# Altium integrated library Analog Devices Data Converters Analog-to-Digital Converters.IntLib: 2400 symbols (part 196 of 338)
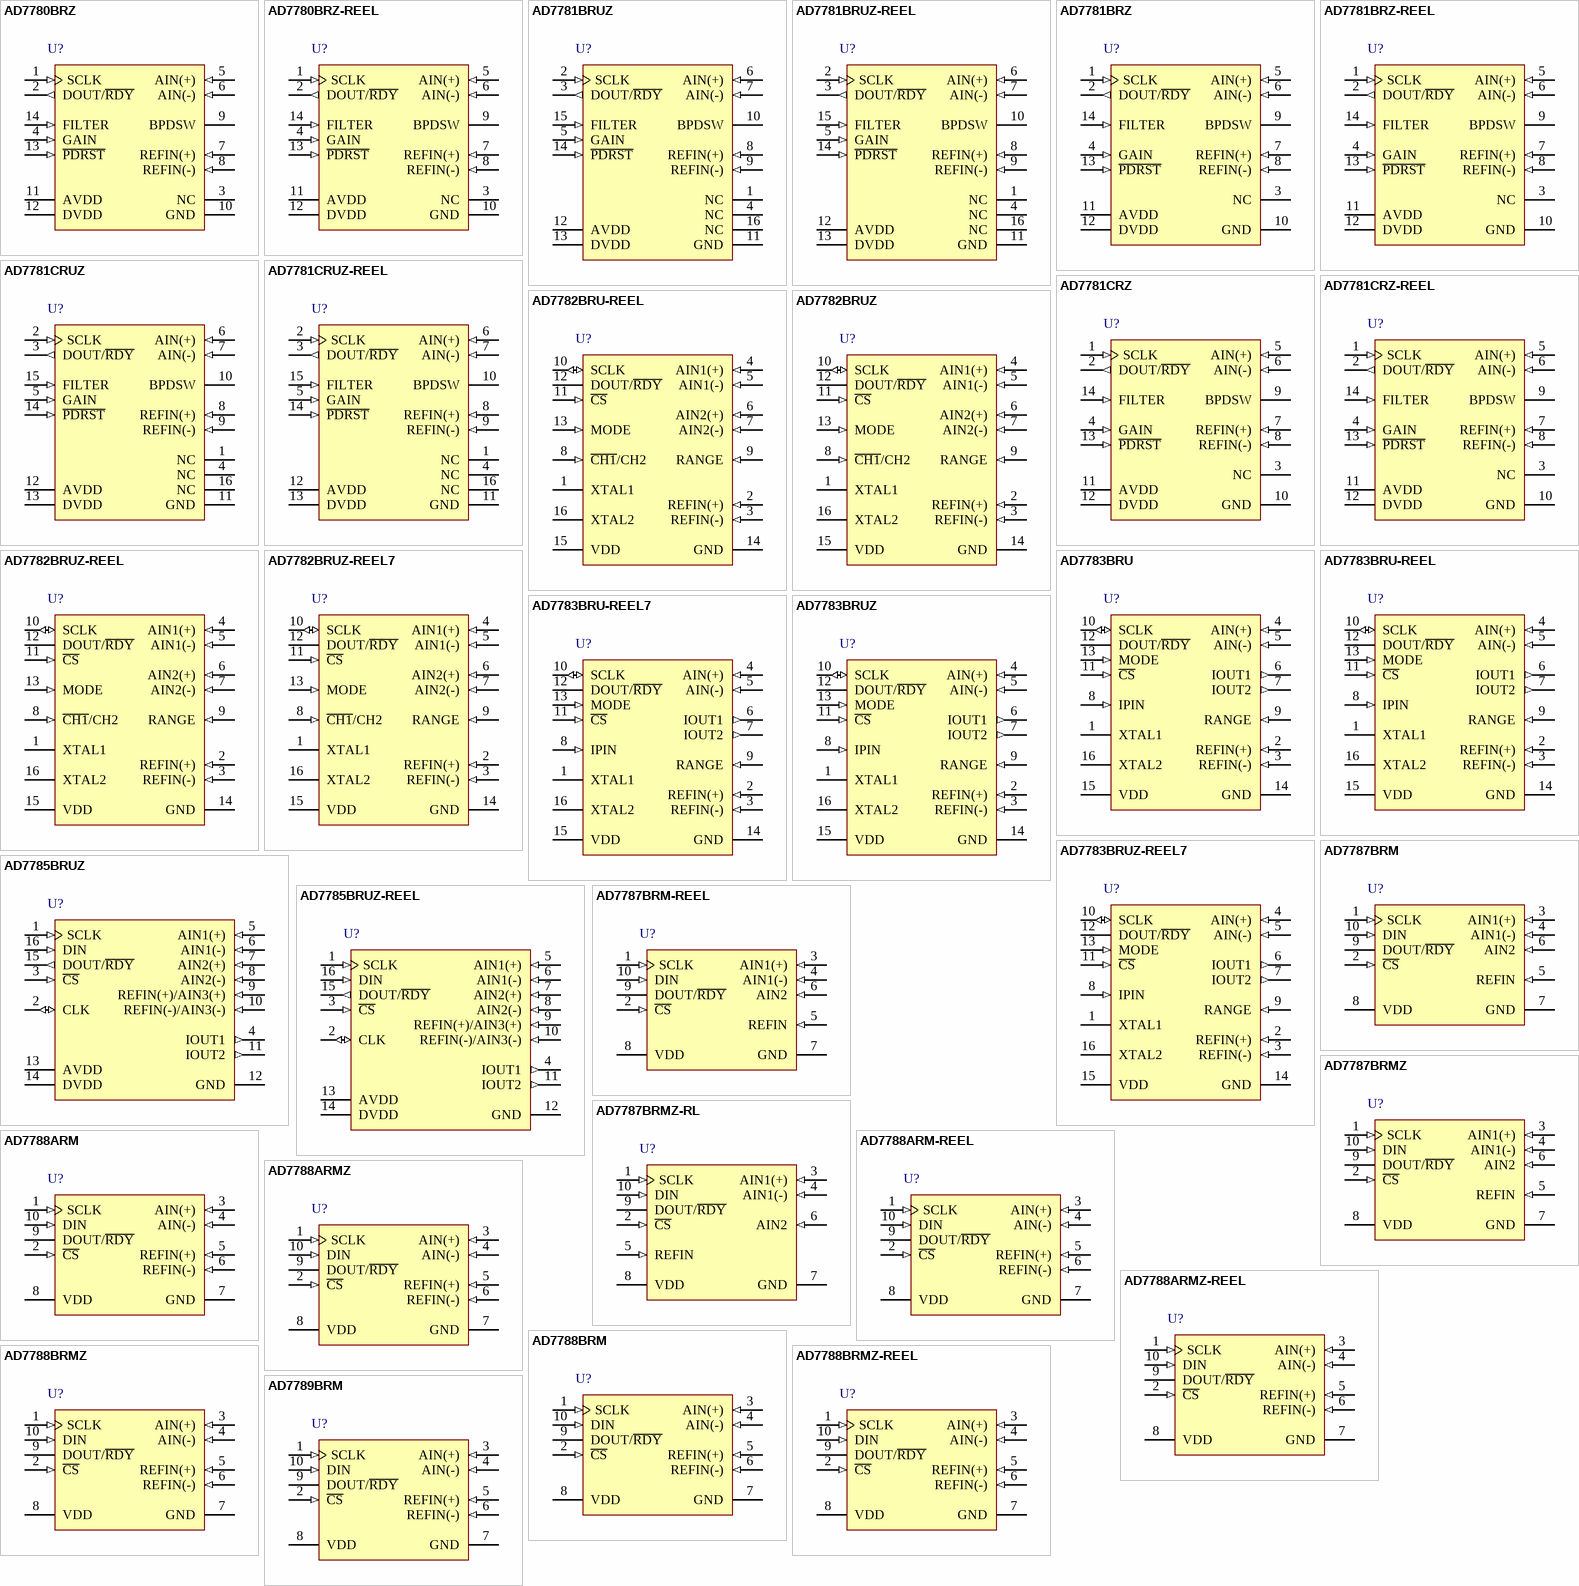
[diagram p363: symbols AD7780BRZ to AD7789BRM]

## AD7781CRUZ
designator U?
Single 20-Bit Low Power Sigma-Delta Analog-to-Digital Converter with Serial, SPI Interface, Pin-Programmable, 16.7SPS, -40 to +105 degC, RU-16, Pb-Free, Tube; Part Number: AD7781; Manufacturer: Analog Devices; Resolution (Bits): 20; Channels: 1; Throughput Rate (SPS): 16.7; Interface: Ser, SPI; DatasheetVersion: Rev.0; PackageVersion: Nov-2002; PackageReference: RU-16; PackageDescription: 16-Lead Thin Shrink Small Outline Package [TSSOP]; RoHS: Y; Packing: Tube; Mounting Technology: Surface Mount; Code_JEDEC: MO-153-AB; ComponentLink1Description: Manufacturer URL; ComponentLink1URL: http://www.analog.com/en/index.html; ComponentLink2Description: Datasheet; ComponentLink2URL: http://www.analog.com/static/imported-files/data_sheets/AD7781.pdf; ComponentLink3Description: Package Specification; ComponentLink3URL: http://www.analog.com/static/imported-files/packages/36244347913743854010197452789RU16.pdf; ComponentLink4Description: Product URL; ComponentLink4URL: http://www.analog.com/en/analog-to-digital-converters/ad-converters/ad7781/products/product.html
footprint RU-16_N (TSOP, 16-Leads, Body 5x4.4mm, Pitch 0.65mm, IPC Medium Density)
footprint RU-16_L (TSOP, 16-Leads, Body 5x4.4mm, Pitch 0.65mm, IPC High Density)
footprint RU-16_M (TSOP, 16-Leads, Body 5x4.4mm, Pitch 0.65mm, IPC Low Density)
pins: 1 NC "No Connect. This pin can be left floating.", 2 SCLK (in) "Serial Clock Input. This serial clock input is for data transfers from the ADC. The SCLK pin has a Schmitt-triggered input. The serial clock can be active only when transferring data from the AD7781. The data from the AD7781 (See Datasheet)", 3 DOUT/~{RDY} (out) "Serial Data Output/Data Ready Output. DOUT/RDY serves a dual purpose: as a data ready pin, going low to indicate the completion of a conversion, and as a serial data output pin to access the data register of the ADC. Eight (See Datasheet)", 4 NC "No Connect. This pin can be left floating.", 5 GAIN (in) "Gain Select Pin. When GAIN is low, the gain is set to 128. When GAIN is high, the gain is set to 1.", 6 AIN(+) (in) "Analog Input. AIN(+) is the positive terminal of the differential analog input pair, AIN(+)/AIN(-).", 7 AIN(-) (in) "Analog Input. AIN(-) is the negative terminal of the differential analog input pair, AIN(+)/AIN(-).", 8 REFIN(+) (in) "Positive Reference Input. An external reference can be applied between REFIN(+) and REFIN(-). The nomi-nal reference voltage (REFIN(+) - REFIN(-)) is 5 V, but the part can function with a reference of 0.5 V to AVDD.", 9 REFIN(-) (in) "Negative Reference Input.", 10 BPDSW "Bridge Power-Down Switch to GND. When PDRST is high, the bridge power-down switch is closed. When PDRST is low, the switch is opened.", 11 GND (power) "Ground Reference Point.", 12 AVDD (power) "Supply Voltage, 2.7 V to 5.25 V.", 13 DVDD (power) "Digital Interface Supply Voltage. The logic levels for the serial interface pins and the digital control pins are related to this supply, which is between 2.7 V and 5.25 V. The DVDD voltage is independent of the voltage on (See Datasheet)", 14 ~{PDRST} (in) "Power-Down/Reset. When this pin is low, the ADC is placed in power-down mode, and the low-side power switch is opened. All the logic on the chip is reset, and the DOUT/RDY pin is tristated. When PDRST is high, the ADC is (See Datasheet)", 15 FILTER (in) "Filter Select Pin. When FILTER is low, the fast settling filter is selected. The update rate is set to 16.7 Hz, which gives a filter settling time of 120 ms. When FILTER is high, the high rejection filter is selected. The (See Datasheet)", 16 NC "No Connect. This pin can be left floating."

## AD7781CRUZ-REEL
designator U?
Single 20-Bit Low Power Sigma-Delta Analog-to-Digital Converter with Serial, SPI Interface, Pin-Programmable, 16.7SPS, -40 to +105 degC, RU-16, Pb-Free, Reel; Part Number: AD7781; Manufacturer: Analog Devices; Resolution (Bits): 20; Channels: 1; Throughput Rate (SPS): 16.7; Interface: Ser, SPI; DatasheetVersion: Rev.0; PackageVersion: Nov-2002; PackageReference: RU-16; PackageDescription: 16-Lead Thin Shrink Small Outline Package [TSSOP]; RoHS: Y; Packing: Reel; Mounting Technology: Surface Mount; Code_JEDEC: MO-153-AB; ComponentLink1Description: Manufacturer URL; ComponentLink1URL: http://www.analog.com/en/index.html; ComponentLink2Description: Datasheet; ComponentLink2URL: http://www.analog.com/static/imported-files/data_sheets/AD7781.pdf; ComponentLink3Description: Package Specification; ComponentLink3URL: http://www.analog.com/static/imported-files/packages/36244347913743854010197452789RU16.pdf; ComponentLink4Description: Product URL; ComponentLink4URL: http://www.analog.com/en/analog-to-digital-converters/ad-converters/ad7781/products/product.html
footprint RU-16_N (TSOP, 16-Leads, Body 5x4.4mm, Pitch 0.65mm, IPC Medium Density)
footprint RU-16_L (TSOP, 16-Leads, Body 5x4.4mm, Pitch 0.65mm, IPC High Density)
footprint RU-16_M (TSOP, 16-Leads, Body 5x4.4mm, Pitch 0.65mm, IPC Low Density)
pins: 1 NC "No Connect. This pin can be left floating.", 2 SCLK (in) "Serial Clock Input. This serial clock input is for data transfers from the ADC. The SCLK pin has a Schmitt-triggered input. The serial clock can be active only when transferring data from the AD7781. The data from the AD7781 (See Datasheet)", 3 DOUT/~{RDY} (out) "Serial Data Output/Data Ready Output. DOUT/RDY serves a dual purpose: as a data ready pin, going low to indicate the completion of a conversion, and as a serial data output pin to access the data register of the ADC. Eight (See Datasheet)", 4 NC "No Connect. This pin can be left floating.", 5 GAIN (in) "Gain Select Pin. When GAIN is low, the gain is set to 128. When GAIN is high, the gain is set to 1.", 6 AIN(+) (in) "Analog Input. AIN(+) is the positive terminal of the differential analog input pair, AIN(+)/AIN(-).", 7 AIN(-) (in) "Analog Input. AIN(-) is the negative terminal of the differential analog input pair, AIN(+)/AIN(-).", 8 REFIN(+) (in) "Positive Reference Input. An external reference can be applied between REFIN(+) and REFIN(-). The nomi-nal reference voltage (REFIN(+) - REFIN(-)) is 5 V, but the part can function with a reference of 0.5 V to AVDD.", 9 REFIN(-) (in) "Negative Reference Input.", 10 BPDSW "Bridge Power-Down Switch to GND. When PDRST is high, the bridge power-down switch is closed. When PDRST is low, the switch is opened.", 11 GND (power) "Ground Reference Point.", 12 AVDD (power) "Supply Voltage, 2.7 V to 5.25 V.", 13 DVDD (power) "Digital Interface Supply Voltage. The logic levels for the serial interface pins and the digital control pins are related to this supply, which is between 2.7 V and 5.25 V. The DVDD voltage is independent of the voltage on (See Datasheet)", 14 ~{PDRST} (in) "Power-Down/Reset. When this pin is low, the ADC is placed in power-down mode, and the low-side power switch is opened. All the logic on the chip is reset, and the DOUT/RDY pin is tristated. When PDRST is high, the ADC is (See Datasheet)", 15 FILTER (in) "Filter Select Pin. When FILTER is low, the fast settling filter is selected. The update rate is set to 16.7 Hz, which gives a filter settling time of 120 ms. When FILTER is high, the high rejection filter is selected. The (See Datasheet)", 16 NC "No Connect. This pin can be left floating."

## AD7781CRZ
designator U?
Single 20-Bit Low Power Sigma-Delta Analog-to-Digital Converter with Serial, SPI Interface, Pin-Programmable, 16.7SPS, -40 to +105 degC, R-14, Pb-Free, Tube; Part Number: AD7781; Manufacturer: Analog Devices; Resolution (Bits): 20; Channels: 1; Throughput Rate (SPS): 16.7; Interface: Ser, SPI; DatasheetVersion: Rev.0; PackageVersion: 060606-A; PackageReference: R-14; PackageDescription: 14-Lead Standard Small Outline Package [SOIC_N]; RoHS: Y; Packing: Tube; Mounting Technology: Surface Mount; Code_JEDEC: MS-012-AB; Code_IPC: SOIC127P600-14; ComponentLink1Description: Manufacturer URL; ComponentLink1URL: http://www.analog.com/en/index.html; ComponentLink2Description: Datasheet; ComponentLink2URL: http://www.analog.com/static/imported-files/data_sheets/AD7781.pdf; ComponentLink3Description: Package Specification; ComponentLink3URL: http://www.analog.com/static/imported-files/packages/PKG_PDF/SOIC_Narrow%20(R)/R_14.pdf; ComponentLink4Description: Product URL; ComponentLink4URL: http://www.analog.com/en/analog-to-digital-converters/ad-converters/ad7781/products/product.html
footprint R-14_N (SOIC, 14-Leads, Body 8.7x3.9mm, Pitch 1.27mm, IPC Medium Density)
footprint R-14_L (SOIC, 14-Leads, Body 8.7x3.9mm, Pitch 1.27mm, IPC High Density)
footprint R-14_M (SOIC, 14-Leads, Body 8.7x3.9mm, Pitch 1.27mm, IPC Low Density)
pins: 1 SCLK (in) "Serial Clock Input. This serial clock input is for data transfers from the ADC. The SCLK pin has a Schmitttriggered input. The serial clock can be active only when transferring data from the AD7781. The data from the AD7781 (See Datasheet)", 2 DOUT/~{RDY} (out) "Serial Data Output/Data Ready Output. DOUT/R\D\Y\ serves a dual purpose: as a data ready pin, going low to indicate the completion of a conversion, and as a serial data output pin to access the data register of the ADC. (See Datasheet)", 3 NC "No Connect. This pin can be left floating.", 4 GAIN (in) "Gain Select Pin. When GAIN is low, the gain is set to 128. When GAIN is high, the gain is set to 1.", 5 AIN(+) (in) "Analog Input. AIN(+) is the positive terminal of the differential analog input pair, AIN(+)/AIN(?).", 6 AIN(-) (in) "Analog Input. AIN(-) is the negative terminal of the differential analog input pair, AIN(+)/AIN(?).", 7 REFIN(+) (in) "Positive Reference Input. An external reference can be applied between REFIN(+) and REFIN(?). The nominal reference voltage (REFIN(+) ? REFIN(?)) is 5 V, but the part can function with a reference of 0.5 V to AVDD.", 8 REFIN(-) (in) "Negative Reference Input.", 9 BPDSW "Bridge Power-Down Switch to GND. When P\D\R\S\T\ is high, the bridge power-down switch is closed. When P\D\R\S\T\ is low, the switch is opened.", 10 GND (power) "Ground Reference Point.", 11 AVDD (power) "Supply Voltage, 2.7 V to 5.25 V.", 12 DVDD (power) "Digital Interface Supply Voltage. The logic levels for the serial interface pins and the digital control pins are related to this supply, which is between 2.7 V and 5.25 V. The DVDD voltage is independent of the voltage on (See Datasheet)", 13 ~{PDRST} (in) "Power-Down/Reset. When this pin is low, the ADC is placed in power-down mode, and the low-side power switch is opened. All the logic on the chip is reset, and the DOUT/R\D\Y\ pin is tristated. When P\D\R\S\T\ is high, the (See Datasheet)", 14 FILTER (in) "Filter Select Pin. When FILTER is low, the fast settling filter is selected. The update rate is set to 16.7 Hz, which gives a filter settling time of 120 ms. When FILTER is high, the high rejection filter is selected. The (See Datasheet)"

## AD7781CRZ-REEL
designator U?
Single 20-Bit Low Power Sigma-Delta Analog-to-Digital Converter with Serial, SPI Interface, Pin-Programmable, 16.7SPS, -40 to +105 degC, R-14, Pb-Free, Reel; Part Number: AD7781; Manufacturer: Analog Devices; Resolution (Bits): 20; Channels: 1; Throughput Rate (SPS): 16.7; Interface: Ser, SPI; DatasheetVersion: Rev.0; PackageVersion: 060606-A; PackageReference: R-14; PackageDescription: 14-Lead Standard Small Outline Package [SOIC_N]; RoHS: Y; Packing: Reel; Mounting Technology: Surface Mount; Code_JEDEC: MS-012-AB; Code_IPC: SOIC127P600-14; ComponentLink1Description: Manufacturer URL; ComponentLink1URL: http://www.analog.com/en/index.html; ComponentLink2Description: Datasheet; ComponentLink2URL: http://www.analog.com/static/imported-files/data_sheets/AD7781.pdf; ComponentLink3Description: Package Specification; ComponentLink3URL: http://www.analog.com/static/imported-files/packages/PKG_PDF/SOIC_Narrow%20(R)/R_14.pdf; ComponentLink4Description: Product URL; ComponentLink4URL: http://www.analog.com/en/analog-to-digital-converters/ad-converters/ad7781/products/product.html
footprint R-14_N (SOIC, 14-Leads, Body 8.7x3.9mm, Pitch 1.27mm, IPC Medium Density)
footprint R-14_L (SOIC, 14-Leads, Body 8.7x3.9mm, Pitch 1.27mm, IPC High Density)
footprint R-14_M (SOIC, 14-Leads, Body 8.7x3.9mm, Pitch 1.27mm, IPC Low Density)
pins: 1 SCLK (in) "Serial Clock Input. This serial clock input is for data transfers from the ADC. The SCLK pin has a Schmitttriggered input. The serial clock can be active only when transferring data from the AD7781. The data from the AD7781 (See Datasheet)", 2 DOUT/~{RDY} (out) "Serial Data Output/Data Ready Output. DOUT/R\D\Y\ serves a dual purpose: as a data ready pin, going low to indicate the completion of a conversion, and as a serial data output pin to access the data register of the ADC. (See Datasheet)", 3 NC "No Connect. This pin can be left floating.", 4 GAIN (in) "Gain Select Pin. When GAIN is low, the gain is set to 128. When GAIN is high, the gain is set to 1.", 5 AIN(+) (in) "Analog Input. AIN(+) is the positive terminal of the differential analog input pair, AIN(+)/AIN(?).", 6 AIN(-) (in) "Analog Input. AIN(-) is the negative terminal of the differential analog input pair, AIN(+)/AIN(?).", 7 REFIN(+) (in) "Positive Reference Input. An external reference can be applied between REFIN(+) and REFIN(?). The nominal reference voltage (REFIN(+) ? REFIN(?)) is 5 V, but the part can function with a reference of 0.5 V to AVDD.", 8 REFIN(-) (in) "Negative Reference Input.", 9 BPDSW "Bridge Power-Down Switch to GND. When P\D\R\S\T\ is high, the bridge power-down switch is closed. When P\D\R\S\T\ is low, the switch is opened.", 10 GND (power) "Ground Reference Point.", 11 AVDD (power) "Supply Voltage, 2.7 V to 5.25 V.", 12 DVDD (power) "Digital Interface Supply Voltage. The logic levels for the serial interface pins and the digital control pins are related to this supply, which is between 2.7 V and 5.25 V. The DVDD voltage is independent of the voltage on (See Datasheet)", 13 ~{PDRST} (in) "Power-Down/Reset. When this pin is low, the ADC is placed in power-down mode, and the low-side power switch is opened. All the logic on the chip is reset, and the DOUT/R\D\Y\ pin is tristated. When P\D\R\S\T\ is high, the (See Datasheet)", 14 FILTER (in) "Filter Select Pin. When FILTER is low, the fast settling filter is selected. The update rate is set to 16.7 Hz, which gives a filter settling time of 120 ms. When FILTER is high, the high rejection filter is selected. The (See Datasheet)"